# EAGLE library part ICS570 (library Custom)
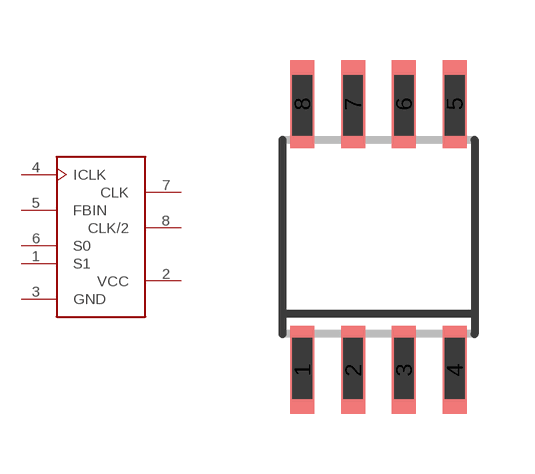
[diagram p8: symbol with the pads of SO-08M; footprint SO-08M]

Designator prefix -

## ICS570SO-08M  [SO-08M]
1  S1  in
2  VCC  pwr
3  GND  pwr
4  ICLK  in
5  FBIN  in
6  S0  in
7  CLK  out
8  CLK/2  out

## Footprint SO-08M (pad centres in mm)
Small Outline Medium Plastic Gull Wing 207-mil body, package type SM
smd 0.6 x 2.2: 1 -1.905,-3.33; 2 -0.635,-3.33; 3 0.635,-3.33; 4 1.905,-3.33; 5 1.905,3.33; 6 0.635,3.33; 7 -0.635,3.33; 8 -1.905,3.33